# EAGLE library part RN_EU (library m-pad-2.1)
Chip Resistor Array's from various manufactures
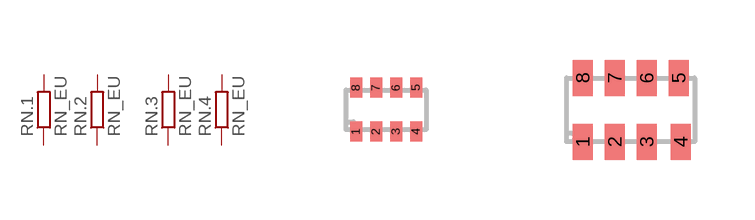
[diagram p131: symbol with the pads of CTS-741*083; footprints CTS-741*083, CTS-742*083]

Designator prefix RN; gates .1=RN-EU .2=RN-EU .3=RN-EU .4=RN-EU

## RN_EU-1  [CTS-741*083]
1  .1:1  pas
2  .2:1  pas
3  .3:1  pas
4  .4:1  pas
5  .4:2  pas
6  .3:2  pas
7  .2:2  pas
8  .1:2  pas

## RN_EU-2  [CTS-742*083]
Pads as for CTS-741*083

## RN_EU-3  [CTS-743*083]
Pads as for CTS-741*083

## RN_EU-4  [CTS-744*083]
Pads as for CTS-741*083

## RN_EU-5  [EXB-28V]
Pads as for CTS-741*083

## RN_EU-6  [EXB-38V]
Pads as for CTS-741*083

## RN_EU-7  [EXB-V8V]
Pads as for CTS-741*083

## Footprint CTS-741*083 (pad centres in mm)
CTS Resistor Chip Arrays 402
smd 0.3 x 0.5: 1 -0.75,-0.55; 2 -0.25,-0.55; 3 0.25,-0.55; 4 0.75,-0.55; 5 0.75,0.55; 6 0.25,0.55; 7 -0.25,0.55; 8 -0.75,0.55

## Footprint CTS-742*083 (pad centres in mm)
CTS Resistor Chip Arrays 603
smd 0.5 x 0.9: 1 -1.2,-0.8; 2 -0.4,-0.8; 3 0.4,-0.8; 4 1.25,-0.8; 5 1.2,0.8; 6 0.4,0.8; 7 -0.4,0.8; 8 -1.2,0.8

## Footprint CTS-743*083 (pad centres in mm)
CTS Resistor Chip Arrays 805
smd 0.8 x 1: 1 -1.905,-1; 2 -0.635,-1; 3 0.635,-1; 4 1.905,-1; 5 1.905,1; 6 0.635,1; 7 -0.635,1; 8 -1.905,1

## Footprint CTS-744*083 (pad centres in mm)
CTS Resistor Chip Arrays 1206
smd 0.8 x 1: 1 -1.905,-1.6; 2 -0.635,-1.6; 3 0.635,-1.6; 4 1.905,-1.6; 5 1.905,1.6; 6 0.635,1.6; 7 -0.635,1.6; 8 -1.905,1.6

## Footprint EXB-28V (pad centres in mm)
Panasonics Chip Resistor Array 402
smd 0.525 x 0.5: 1 -0.8,-0.45; 4 0.8,-0.45; 5 0.8,0.45; 8 -0.8,0.45
smd 0.25 x 0.5: 2 -0.25,-0.45; 3 0.25,-0.45; 6 0.25,0.45; 7 -0.25,0.45

## Footprint EXB-38V (pad centres in mm)
Panasonics Chip Resistor Array 603
smd 0.5 x 0.8: 1 -1.2,-0.8; 2 -0.4,-0.8; 3 0.4,-0.8; 4 1.2,-0.8; 5 1.2,0.8; 6 0.45,0.8; 7 -0.4,0.8; 8 -1.2,0.8

## Footprint EXB-V8V (pad centres in mm)
Panasonics Chip Resistor Array 603
smd 0.5 x 0.8: 1 -1.2,-0.8; 2 -0.4,-0.8; 3 0.4,-0.8; 4 1.2,-0.8; 5 1.2,0.8; 6 0.45,0.8; 7 -0.4,0.8; 8 -1.2,0.8